# EAGLE library part AMPHENOL_2X3_2.54MM (library CurrentSensing)
2x3 Connector Datasheet <https://cdn.amphenol-icc.com/media/wysiwyg/files/drawing/75869.pdf?__cf_chl_jschl_tk__=604e45996ac6f917486c57ffc901ed6997ff66cf-1603411121-0-AarLwTbNHmqbZSl4--pGQSjZ4fEx9jZxJvU1bJlSH5LyOuwlm0XGEpTWQroEditJI1uBkKmJ2pfPFy2EpAHnHWAYXwmLrVFpJbSh5sLci_t7S3UCXN1sO_ZvzV9KHmNnebKLFkddw8AaD9jXY_I1g7k-MUlHUU34e9aivME9JnurxxIpEt-TOEJjsZz1Nzfezo4nSJsv5nzSHfrPutFm6r1UCR6lc4wE_VlZfLZ3duN0_XqnlW1TcnySIHi_EsrGScOUNDL2XB0kH-u1Rz7LsM3Q38Qqw-QG0K7BtmcJeZJPPTlWUuTjIRg5BY0bgG4rUNvIJXbflVRf-D7N8Vsu-B_HNSaS1DzD17SvJ439ZkMbDklRpIfpJ-7OoAWEpFvXmw>
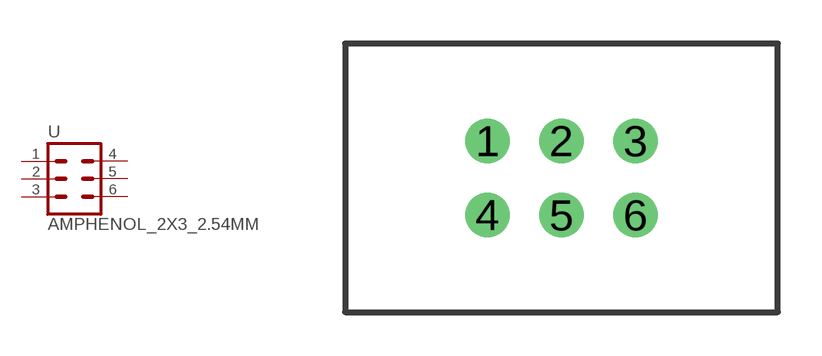
[diagram p3: symbol with the pads of 75869; footprint 75869]

Designator prefix -

## AMPHENOL_2X3_2.54MM  [75869]
1  6  pas
2  4  pas
3  2  pas
4  5  pas
5  3  pas
6  1  pas

## Footprint 75869 (pad centres in mm)
Datasheet <https://cdn.amphenol-icc.com/media/wysiwyg/files/drawing/75869.pdf?__cf_chl_jschl_tk__=604e45996ac6f917486c57ffc901ed6997ff66cf-1603411121-0-AarLwTbNHmqbZSl4--pGQSjZ4fEx9jZxJvU1bJlSH5LyOuwlm0XGEpTWQroEditJI1uBkKmJ2pfPFy2EpAHnHWAYXwmLrVFpJbSh5sLci_t7S3UCXN1sO_ZvzV9KHmNnebKLFkddw8AaD9jXY_I1g7k-MUlHUU34e9aivME9JnurxxIpEt-TOEJjsZz1Nzfezo4nSJsv5nzSHfrPutFm6r1UCR6lc4wE_VlZfLZ3duN0_XqnlW1TcnySIHi_EsrGScOUNDL2XB0kH-u1Rz7LsM3Q38Qqw-QG0K7BtmcJeZJPPTlWUuTjIRg5BY0bgG4rUNvIJXbflVRf-D7N8Vsu-B_HNSaS1DzD17SvJ439ZkMbDklRpIfpJ-7OoAWEpFvXmw>
drill 1.02: 1 -2.54,1.27; 2 0,1.27; 3 2.54,1.27; 4 -2.54,-1.27; 5 0,-1.27; 6 2.54,-1.27